# EAGLE library part LP38692SD-ADJ (library national-semi)
LDO REGULATOR 1A Adjustable
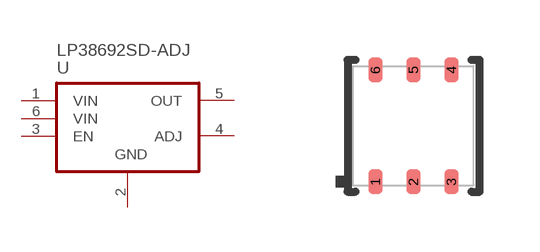
[diagram p19: symbol with the pads of LLP6-3X3; footprint LLP6-3X3]

Designator prefix U

## LP38692SD-ADJ  [LLP6-3X3]
1  VIN  in
2  GND  pwr
3  EN  in
4  ADJ  in
5  OUT  pas
6  VIN  in

## Footprint LLP6-3X3 (pad centres in mm)
6-Pin LLP (3x3mm body) NS Package Number SDE06A
smd 0.35 x 0.6: 1 -0.95,-1.4; 2 0,-1.4; 3 0.95,-1.4; 4 0.95,1.4; 5 0,1.4; 6 -0.95,1.4